# Altium schematic symbol library MMBTA06-7-F.SchLib: 1 symbol
Pins are listed as number, name and electrical type; pins without a type are passive.

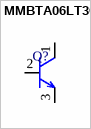
[diagram p0: symbol MMBTA06LT3G]

## MMBTA06LT3G
designator Q?  (value not drawn)
Bipolar (BJT) Transistor NPN 80V 500mA 100MHz 225mW Surface Mount SOT-23-3 (TO-236)
footprint SOT91P240X120-3N
pins: 1 COLLECTOR, 2 BASE, 3 EMITTER